# Altium schematic symbol library Schlib1.SchLib: 11 symbols
Pins are listed as number, name and electrical type; pins without a type are passive.

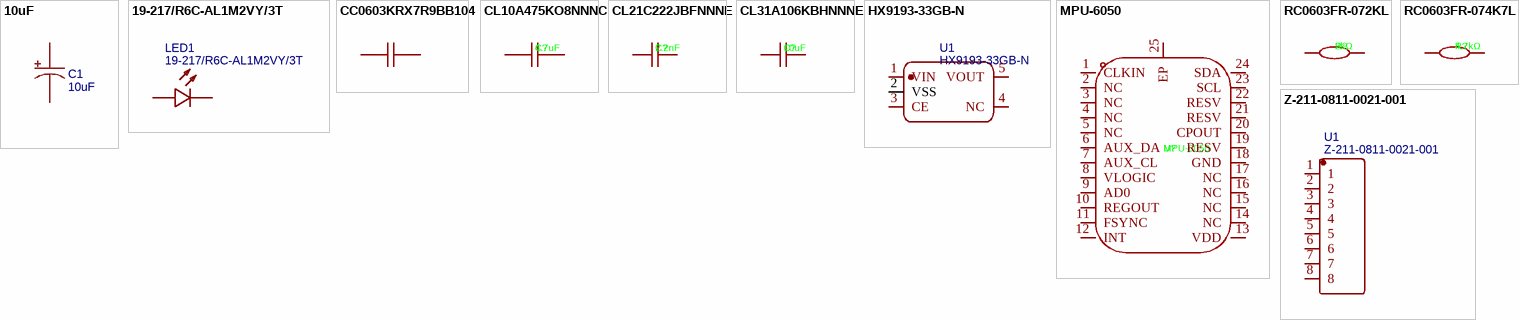
[diagram p0: symbols 10uF to Z-211-0811-0021-001]

## 10uF
designator C1
Manufacturer: Kyocera AVX; Manufacturer Part: TPSA106K016R1000; nameAlias: Value; Contributor: LCSC; Supplier: LCSC; Supplier Part: C282116; JLCPCB Part Class: Extended Part; spicePre: C; spiceSymbolName: TPSA106K016R1000_C282116
footprint CAP-SMD_L3.2-W1.6
pins: 1, 2

## 19-217/R6C-AL1M2VY/3T
designator LED1
Manufacturer: EVERLIGHT(亿光); Supplier: LCSC; Manufacturer Part: 19-217/R6C-AL1M2VY/3T; Supplier Part: C72044; JLCPCB Part Class: Extended Part; spicePre: L; spiceSymbolName: 19-217/R6C-AL1M2VY/3T
footprint LED0603-RD
pins: 1 C, 2 A

## CC0603KRX7R9BB104
designator C?, comment 100nF  (value not drawn)
Manufacturer: YAGEO(国巨); Symbol: CC0603KRX7R9BB104; Add into BOM: yes; Tolerance: ±10%; Device: CC0603KRX7R9BB104; LCSC Part Name: 100nF ±10% 50V; Supplier Part: C14663; Manufacturer Part: CC0603KRX7R9BB104; Supplier Footprint: 0603; JLCPCB Part Class: Basic Part; Datasheet: https://atta.szlcsc.com/upload/public/pdf/source/20180910/C282072_33301C7F631E79921B82A8DAC6BCC5B3.pdf; Supplier: LCSC; Convert to PCB: yes; Value: 100nF
footprint C0603
3D model C0603_L1.6-W0.8-H0.8
pins: 1, 2

## CL10A475KO8NNNC
designator C?, comment 4.7uF
Manufacturer: SAMSUNG(三星); Symbol: CL10A475KO8NNNC; Add into BOM: yes; Tolerance: ±10%; Device: CL10A475KO8NNNC; LCSC Part Name: 4.7uF ±10% 16V; Supplier Part: C19666; Manufacturer Part: CL10A475KO8NNNC; Supplier Footprint: 0603; JLCPCB Part Class: Basic Part; Datasheet: https://atta.szlcsc.com/upload/public/pdf/source/20160218/1457707763339.pdf; Supplier: LCSC; Convert to PCB: yes; Value: 4.7uF
footprint C0603
3D model C0603_L1.6-W0.8-H0.8
pins: 1, 2

## CL21C222JBFNNNE
designator C?, comment 2.2nF
Manufacturer: SAMSUNG(三星); Symbol: CL21C222JBFNNNE; Add into BOM: yes; Tolerance: ±5%; Device: CL21C222JBFNNNE; LCSC Part Name: 2.2nF ±5% 50V; Supplier Part: C28260; Manufacturer Part: CL21C222JBFNNNE; Supplier Footprint: 0805; JLCPCB Part Class: Basic Part; Datasheet: https://atta.szlcsc.com/upload/public/pdf/source/20160218/1457707763339.pdf; Supplier: LCSC; Convert to PCB: yes; Value: 2.2nF
footprint C0805
3D model C0805_L2.0-W1.3-H1.3
pins: 1, 2

## CL31A106KBHNNNE
designator C?, comment 10uF
Manufacturer: SAMSUNG(三星); Symbol: CL31A106KBHNNNE; Add into BOM: yes; Tolerance: ±10%; Device: CL31A106KBHNNNE; LCSC Part Name: 10uF ±10% 50V; Supplier Part: C13585; Manufacturer Part: CL31A106KBHNNNE; Supplier Footprint: 1206; JLCPCB Part Class: Basic Part; Datasheet: https://atta.szlcsc.com/upload/public/pdf/source/20160218/1457707763339.pdf; Supplier: LCSC; Convert to PCB: yes; Value: 10uF
footprint C1206
3D model C1206_L3.2-W1.6-H1.3
pins: 1, 2

## HX9193-33GB-N
designator U1
Manufacturer: HX(恒佳兴); Contributor: lcsc; Supplier: LCSC; Supplier Part: C2995655; Manufacturer Part: HX9193-33GB-N; JLCPCB Part Class: Extended Part; spicePre: U; spiceSymbolName: HX9193-33GB-N
footprint SOT-23-5_L2.9-W1.6-P0.95-LS2.8-BL
pins: 1 VIN, 2 VSS, 3 CE, 4 NC, 5 VOUT

## MPU-6050
designator U?
Manufacturer: TDK InvenSense(应美盛); Symbol: MPU-6050_C24112; Add into BOM: yes; Sensor Type: 加速度计陀螺仪; Device: MPU-6050; LCSC Part Name: MPU-6050; Supplier Part: C24112; Manufacturer Part: MPU-6050; Supplier Footprint: QFN-24-EP(4x4); JLCPCB Part Class: Extended Part; Datasheet: https://atta.szlcsc.com/upload/public/pdf/source/20140425/1457707046159.pdf; Supplier: LCSC; Convert to PCB: yes; Operating Temperature: -40℃~+85℃
footprint QFN-24_L4.0-W4.0-P0.50-BL-EP2.7
3D model QFN-24_L4.0-W4.0-P0.50-BL-EP2.7
pins: 1 CLKIN, 2 NC, 3 NC, 4 NC, 5 NC, 6 AUX_DA, 7 AUX_CL, 8 VLOGIC, 9 AD0, 10 REGOUT, 11 FSYNC, 12 INT, 13 VDD, 14 NC, 15 NC, 16 NC, 17 NC, 18 GND, 19 RESV, 20 CPOUT, 21 RESV, 22 RESV, 23 SCL, 24 SDA, 25 EP

## RC0603FR-072KL
designator R?, comment 2kΩ
Manufacturer: YAGEO(国巨); Symbol: RC0603FR-072KL; Add into BOM: yes; Tolerance: ±1%; Power(Watts): 100mW; Voltage-Supply(Max): 75V; Temperature Coefficient: ±100ppm/℃; Device: RC0603FR-072KL; LCSC Part Name: 厚膜电阻 2kΩ ±1% 100mW; Supplier Part: C105576; Manufacturer Part: RC0603FR-072KL; Supplier Footprint: 0603; JLCPCB Part Class: Extended Part; Datasheet: https://atta.szlcsc.com/upload/public/pdf/source/20180316/70C0E2BDAE7FCC62C531A5A58D202EE1.pdf; Supplier: LCSC; Convert to PCB: yes; Type: Thick Film Resistors; Value: 2kΩ; Operating Temperature: -55℃~+155℃
footprint R0603
3D model R0603
pins: 1, 2

## RC0603FR-074K7L
designator R?, comment 4.7kΩ
Manufacturer: YAGEO(国巨); Symbol: RC0603FR-074K7L; Add into BOM: yes; Tolerance: ±1%; Temperature Coefficient: ±100ppm/℃; Device: RC0603FR-074K7L; LCSC Part Name: 厚膜电阻 4.7kΩ ±1% 100mW; Supplier Part: C99782; Manufacturer Part: RC0603FR-074K7L; Supplier Footprint: 0603; JLCPCB Part Class: Extended Part; Datasheet: https://atta.szlcsc.com/upload/public/pdf/source/20180224/C181757_15194369480721363983.pdf; Supplier: LCSC; Convert to PCB: yes; Type: Thick Film Resistors; Value: 4.7kΩ; Operating Temperature Range: -55℃~+155℃
footprint R0603
3D model R0603
pins: 1, 2

## Z-211-0811-0021-001
designator U1
Manufacturer: Nextron(正凌); Contributor: LCSC; Supplier: LCSC; Supplier Part: C190820; Manufacturer Part: Z-211-0811-0021-001; JLCPCB Part Class: Extended Part; spicePre: U; spiceSymbolName: Z-211-0811-0021-001
footprint HDR-TH_8P-P2.54-V-M
pins: 1, 2, 3, 4, 5, 6, 7, 8